# Altium footprint library Конденсаторы-mm.PcbLib: 129 footprints (part 2 of 9)
Each footprint in its own frame and in the unit in brackets; x right, y up, seen from the top. Pads: shape width x height; smd on the part's side, far side on the other; paste and mask are expansions set on the pad; w line width, h text height; cw(c..) or ccw(c..) is an arc to the next point about the centre after c.
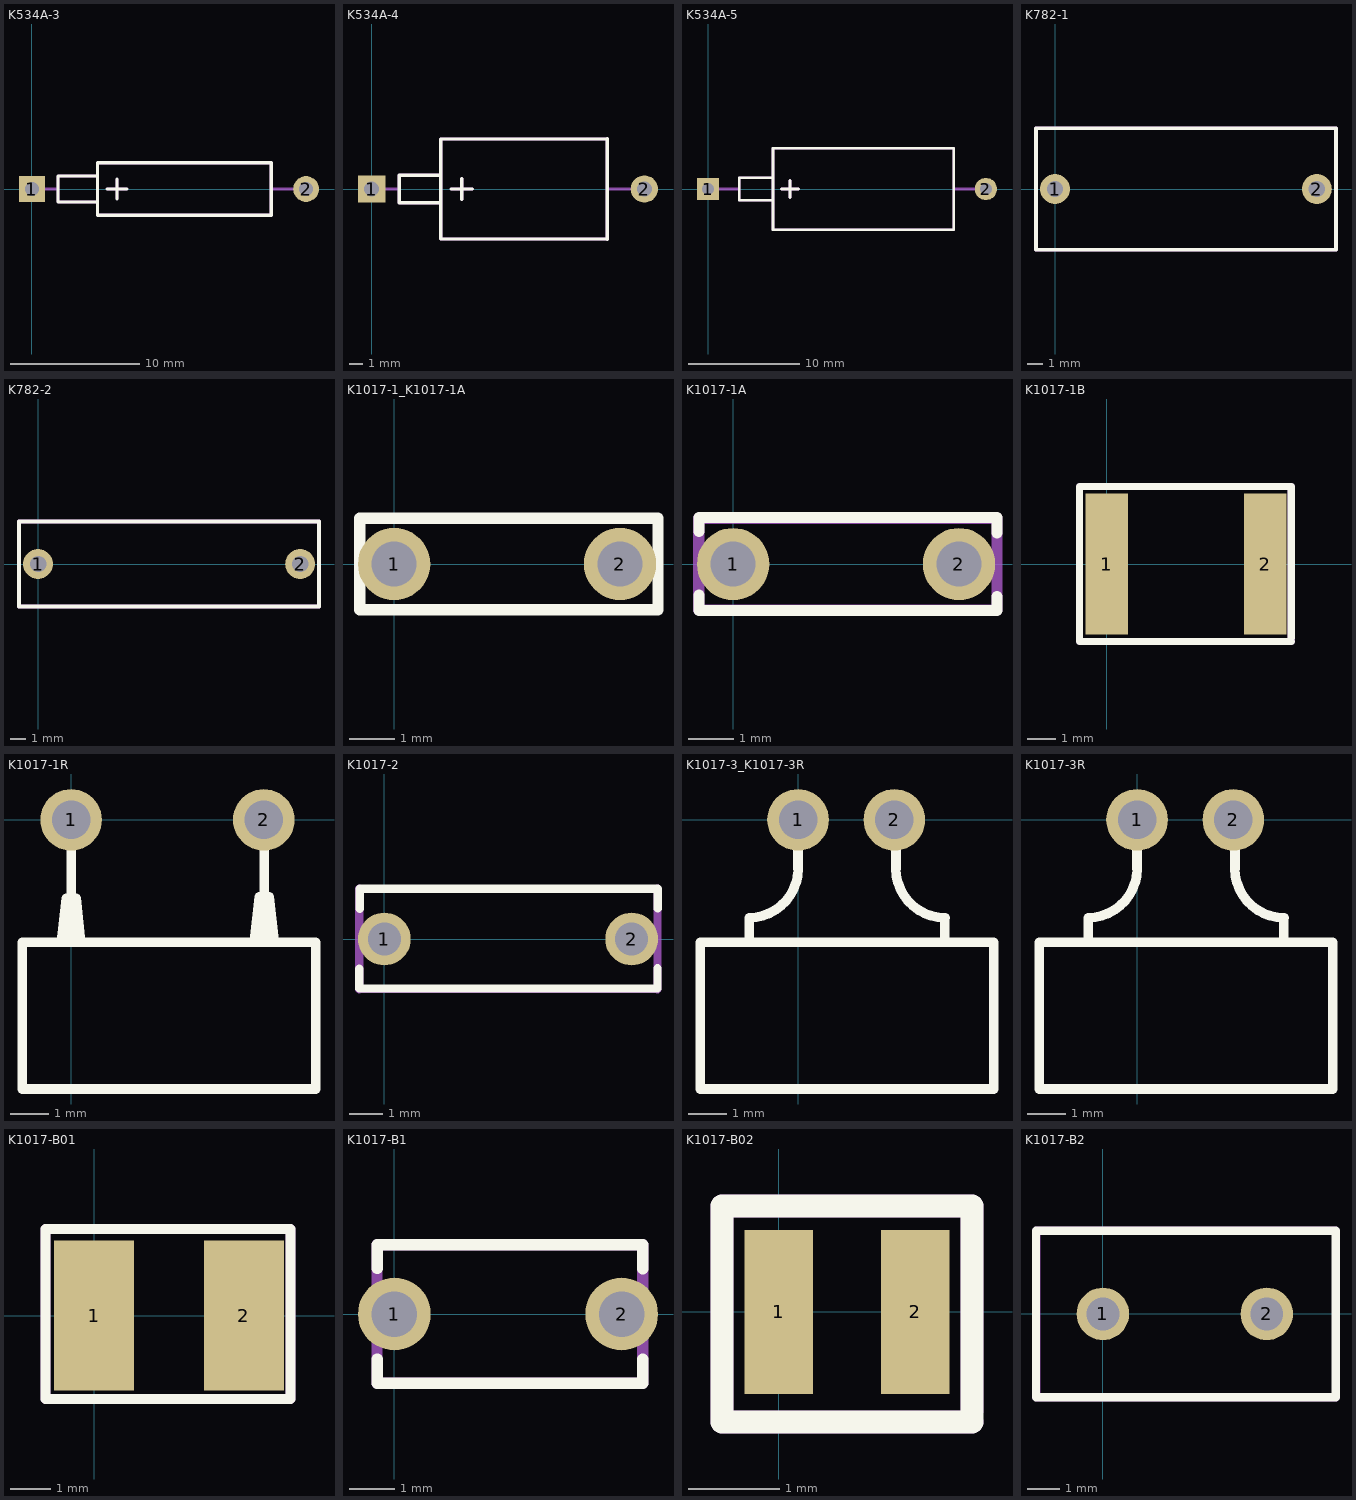
[diagram p1: the footprints below, top view; thin cyan lines are the x and y axes]

## K534A-3 [mm]
pads (2):
  rect 2x2 hole 1.1: 1(0,0)
  round 2 hole 1.1: 2(21.25,0)
Top Overlay:
  lines w0.25: 5.08,-1.016 2.032,-1.016 2.032,1.016 5.08,1.016 ; 5.842,0 7.366,0 ; 6.604,-0.762 6.604,0.762 ; 5.08,-2.032 18.542,-2.032 18.542,0 18.542,2.032 5.08,2.032 5.08,-2.032
Mechanical 1:
  lines w0.25: 0,0 2.032,0 ; 5.08,-1.016 2.032,-1.016 2.032,1.016 5.08,1.016 ; 5.842,0 7.366,0 ; 6.604,-0.762 6.604,0.762 ; 21.05,0.01 18.542,0 ; 18.542,0 18.542,-2.032 5.08,-2.032 5.08,2.032 18.542,2.032 18.542,0

## K534A-4 [mm]
pads (2):
  rect 2x2 hole 1.1: 1(0,0)
  round 2 hole 1.1: 2(20,0)
Top Overlay:
  lines w0.25: 5.08,-1.016 2.032,-1.016 2.032,1.016 5.08,1.016 ; 5.842,0 7.366,0 ; 6.604,-0.762 6.604,0.762 ; 17.272,-3.683 5.08,-3.658 5.08,3.658 17.272,3.683 ; 17.272,-3.658 17.272,3.658
Mechanical 1:
  lines w0.25: 0,0 2.032,0 ; 5.08,-1.016 2.032,-1.016 2.032,1.016 5.08,1.016 ; 5.842,0 7.366,0 ; 6.604,-0.762 6.604,0.762 ; 17.272,-3.683 5.08,-3.658 5.08,3.658 17.272,3.683 ; 17.272,-3.658 17.272,3.658 ; 17.272,0 19.67,-0.02

## K534A-5 [mm]
pads (2):
  rect 2x2 hole 1.1: 1(0,0)
  round 2 hole 1.1: 2(25,0)
Top Overlay:
  lines w0.25: 5.842,-1.016 2.794,-1.016 2.794,1.016 5.842,1.016 ; 6.604,0 8.128,0 ; 7.366,-0.762 7.366,0.762 ; 5.842,-3.658 22.098,-3.658 22.098,3.658 5.842,3.658 5.842,-3.658
Mechanical 1:
  lines w0.25: 0,0 2.794,0 ; 5.842,-1.016 2.794,-1.016 2.794,1.016 5.842,1.016 ; 6.604,0 8.128,0 ; 7.366,-0.762 7.366,0.762 ; 22.098,0 24.6,0 ; 5.842,-3.658 22.098,-3.658 22.098,3.658 5.842,3.658 5.842,-3.658

## K782-1 [mm]
pads (2):
  round 2 hole 1.1: 1(0,0) 2(17.5,0)
Top Overlay:
  lines w0.25: 18.76,4.06 -1.27,4.064 -1.27,-4.064 18.78,-4.06 ; 18.78,-4.064 18.78,4.064
Mechanical 1:
  lines w0.25: 18.76,4.06 -1.27,4.064 -1.27,-4.064 18.78,-4.06 ; 18.78,-4.064 18.78,4.064

## K782-2 [mm]
pads (2):
  round 2 hole 1.1: 1(0,0) 2(17.5,0)
Top Overlay:
  lines w0.25: 18.76,-2.84 -1.27,-2.845 -1.27,2.845 18.76,2.83 18.76,-2.815
Mechanical 1:
  lines w0.25: 18.76,-2.84 -1.27,-2.845 -1.27,2.845 18.76,2.83 18.76,-2.815

## K1017-1_K1017-1A [mm]
pads (2):
  round 1.6 hole 1: 1(0,0) 2(5,0)
Top Overlay:
  lines w0.25: -0.762,-1.016 5.842,-1.016 5.842,1.016 -0.762,1.016 -0.762,-1.016

## K1017-1A [mm]
pads (2):
  round 1.6 hole 1: 1(0,0) 2(5,0)
Top Overlay:
  lines w0.25: -0.755,-0.69 -0.755,-1.025 5.84,-1.025 5.84,-0.725 ; -0.755,0.73 -0.755,1.03 5.84,1.03 5.84,0.695
Mechanical 1:
  lines w0.25: -0.762,-1.016 5.842,-1.016 5.842,1.016 -0.762,1.016 -0.762,-1.016

## K1017-1B [mm]
pads (2):
  rect 1.5x5 smd: 1(0,0) 2(5.625,0)
Top Overlay:
  lines w0.25: 6.54,-2.75 -0.96,-2.75 -0.96,-2.625 -0.96,2.75 6.54,2.75 6.54,-2.625
Mechanical 1:
  lines w0.25: -0.96,-2.75 6.54,-2.75 6.54,-2.625 6.54,2.75 -0.96,2.75 -0.96,-2.625 -0.96,-2.75

## K1017-1R [mm]
pads (2):
  round 1.6 hole 1: 1(0,0) 2(5,0)
Top Overlay:
  lines w0.25: -0.254,-3.175 -0.127,-2.032 0.127,-2.032 0.254,-3.175 ; 0,-3.175 0,0 ; 4.756,-3.145 4.883,-2.002 5.137,-2.002 5.264,-3.145 ; 5.01,-3.145 5.01,0.03 ; -1.27,-6.985 6.35,-6.985 6.35,-3.175 -1.27,-3.175 -1.27,-6.985

## K1017-2 [mm]
pads (2):
  round 1.6 hole 1: 1(0,0) 2(7.5,0)
Top Overlay:
  lines w0.25: -0.76,-0.9 -0.76,-1.5 7.805,-1.5 8.285,-1.5 8.285,-0.89 ; -0.75,0.915 -0.75,1.525 -0.27,1.525 8.295,1.525 8.295,0.925
Mechanical 1:
  lines w0.25: 8.27,-1.51 -0.762,-1.524 -0.762,1.524 8.28,1.52 ; 8.282,-1.524 8.282,1.524

## K1017-3_K1017-3R [mm]
pads (2):
  round 1.6 hole 1: 1(0,0) 2(2.5,0)
Top Overlay:
  lines w0.25: -1.27,-3.175 -1.27,-2.54 ; -1.268,-2.54 ccw(c-1.27,-1.27) 0,-1.27 0,0 ; 2.54,-1.268 ccw(c3.81,-1.27) 3.812,-2.54 ; 2.54,-0.635 2.54,-1.27 2.54,0 ; 3.81,-3.175 3.81,-2.54 ; -2.54,-6.985 5.08,-6.985 5.08,-3.175 -2.54,-3.175 -2.54,-6.985

## K1017-3R [mm]
pads (2):
  round 1.6 hole 1: 1(0,0) 2(2.5,0)
Top Overlay:
  lines w0.25: -1.27,-3.175 -1.27,-2.54 ; -1.268,-2.54 ccw(c-1.27,-1.27) 0,-1.27 0,0 ; 2.54,-1.268 ccw(c3.81,-1.27) 3.812,-2.54 ; 2.54,-0.635 2.54,-1.27 2.54,0 ; 3.81,-3.175 3.81,-2.54 ; -2.54,-6.985 5.08,-6.985 5.08,-3.175 -2.54,-3.175 -2.54,-6.985

## K1017-B01 [mm]
pads (2):
  rect 2x3.75 smd: 1(0,0) 2(3.75,0)
Top Overlay:
  lines w0.25: -1.21,-2.085 4.915,-2.085 4.915,2.165 -1.21,2.165 -1.21,-2.085
Mechanical 1:
  lines w0.25: -1.21,-2.085 4.915,-2.085 4.915,2.165 -1.21,2.165 -1.21,-2.085

## K1017-B1 [mm]
pads (2):
  round 1.6 hole 1: 1(0,0) 2(5,0)
Top Overlay:
  lines w0.25: -0.38,-0.99 -0.38,-1.52 5.46,-1.52 ; -0.38,1 -0.38,1.525 -0.375,1.525 5.465,1.525 5.465,0.995 ; 5.465,-1.52 5.465,-0.995
Mechanical 1:
  lines w0.25: -0.381,-1.524 5.461,-1.524 5.461,1.524 -0.381,1.524 -0.381,-1.524

## K1017-B02 [mm]
pads (2):
  rect 0.75x1.8 smd: 1(0,0) 2(1.5,0)
Top Overlay:
  lines w0.25: -0.625,-1.21 2.125,-1.21 2.125,-1.085 2.125,1.165 -0.625,1.165 -0.625,-1.21
Mechanical 1:
  lines w0.25: 2.125,-1.21 -0.625,-1.21 -0.625,1.165 2.125,1.165 2.125,-1.085

## K1017-B2 [mm]
pads (2):
  round 1.6 hole 1: 1(0,0) 2(5,0)
Top Overlay:
  lines w0.25: -2.042,-2.545 7.102,-2.545 7.102,2.535 -2.042,2.535 -2.042,-2.545
Mechanical 1:
  lines w0.25: -2.032,-2.54 7.112,-2.54 7.112,2.54 -2.032,2.54 -2.032,-2.54